# EAGLE library part SD2 (library connectors)
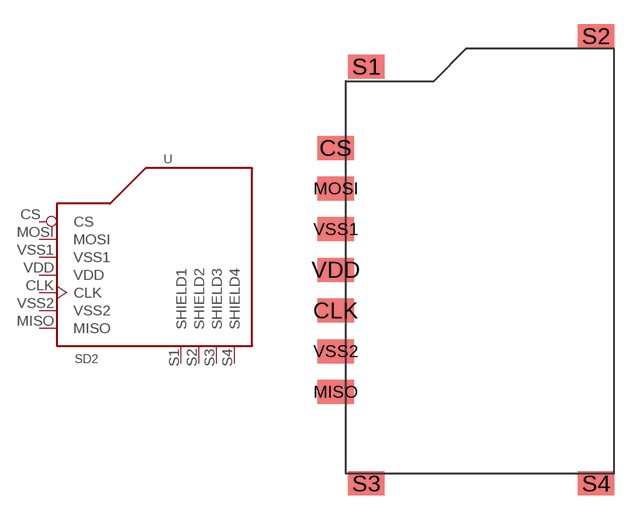
[diagram p5: symbol with the pads of SD2; footprint SD2]

Designator prefix -

## SD2  [SD2]
CLK  CLK  in
CS  CS  in
MISO  MISO  out
MOSI  MOSI  in
S1  SHIELD1  pwr
S2  SHIELD2  pwr
S3  SHIELD3  pwr
S4  SHIELD4  pwr
VDD  VDD  pwr
VSS1  VSS1  pwr
VSS2  VSS2  pwr

## Footprint SD2 (pad centres in mm)
smd 2.3 x 1.5: CLK -17.145,-2.54; CS -17.145,7.62; MISO -17.145,-7.62; MOSI -17.145,5.08; S1 -15.24,12.7; S2 -0.889,14.605; S3 -15.24,-13.335; S4 -0.889,-13.335; VDD -17.145,0; VSS1 -17.145,2.54; VSS2 -17.145,-5.08